# Altium footprint library CONN_HDR_2.54MM_ST.PcbLib: 159 footprints (part 6 of 13)
Each footprint in its own frame and in the unit in brackets; x right, y up, seen from the top. Pads: shape width x height; smd on the part's side, far side on the other; paste and mask are expansions set on the pad; w line width, h text height; cw(c..) or ccw(c..) is an arc to the next point about the centre after c.
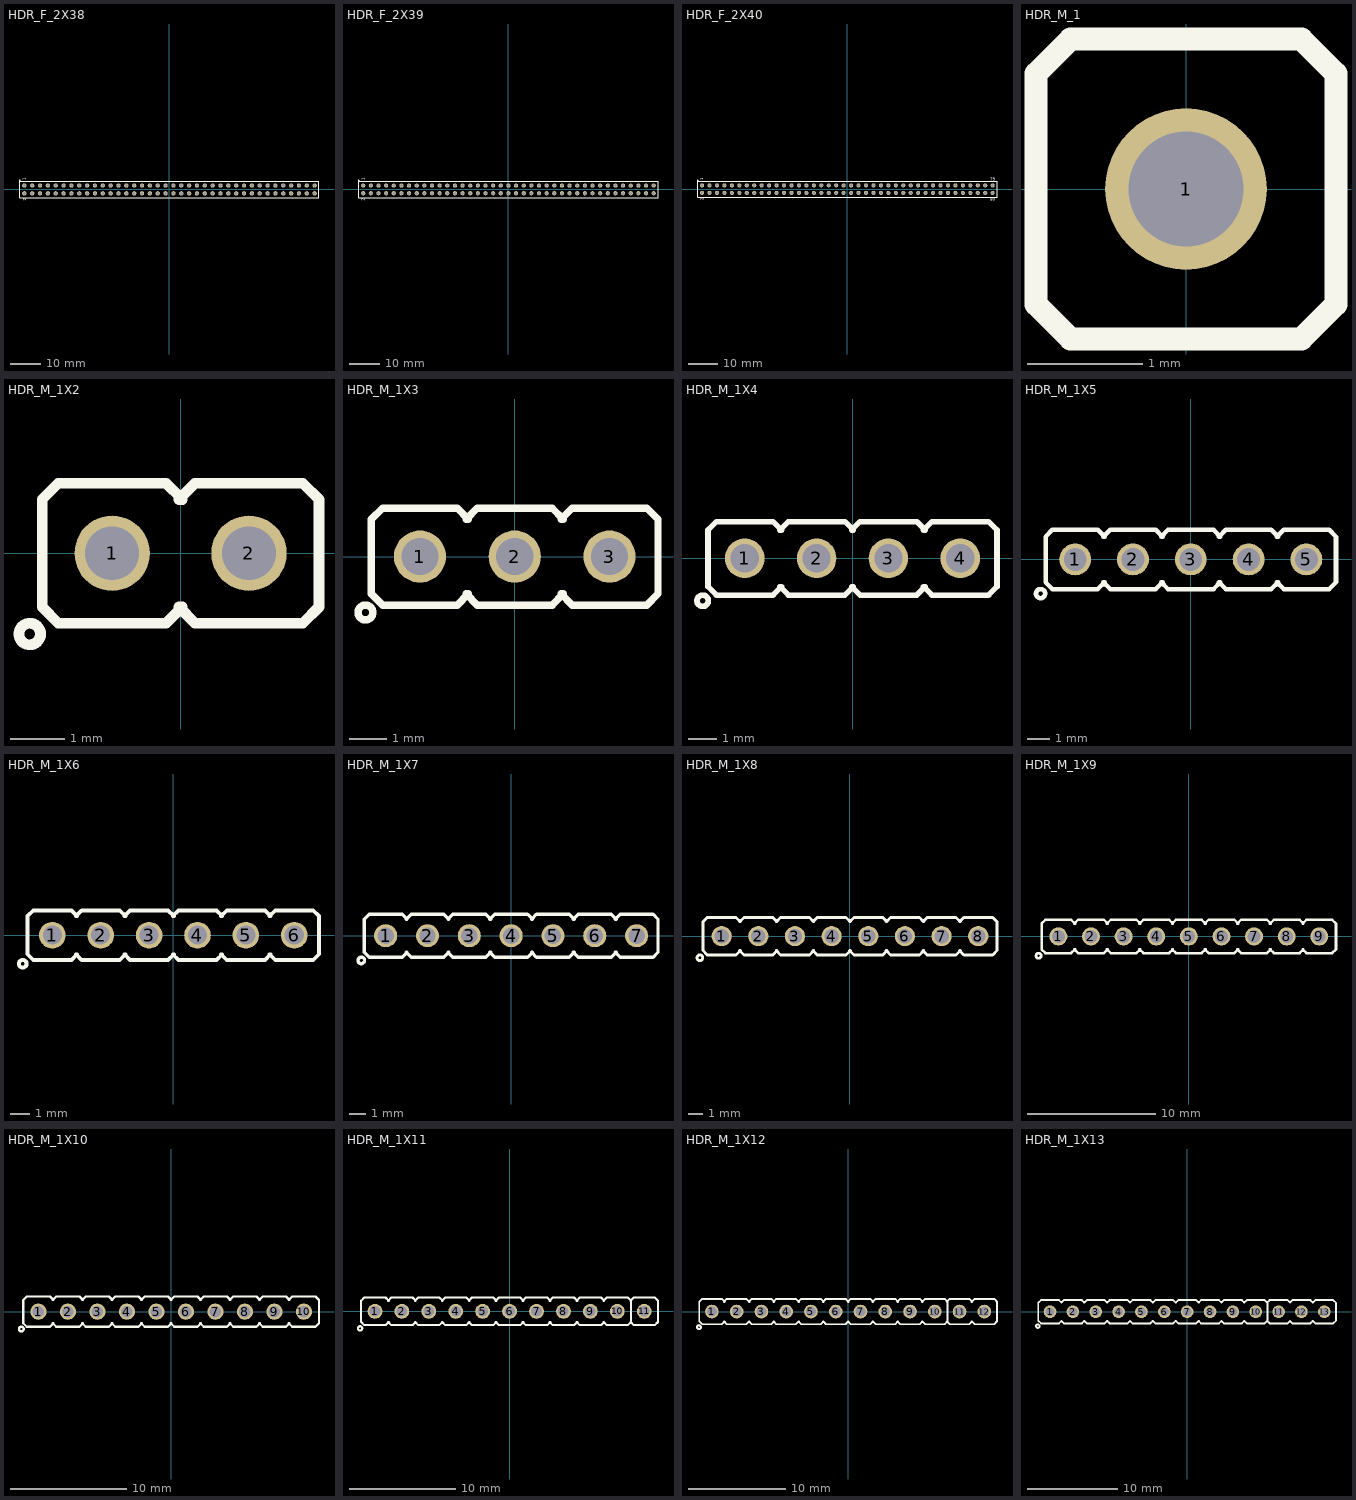
[diagram p5: the footprints below, top view; thin cyan lines are the x and y axes]

## HDR_F_2X38 [mm] "female Header with 2.54 mm Pitch"
pads (76):
  round 1.4 / inner round 1.4 / far side oval 1.4x2.2 hole 1: 1(-46.99,1.27) 2(-46.99,-1.27) 3(-44.45,1.27) 4(-44.45,-1.27) 5(-41.91,1.27) 6(-41.91,-1.27) 7(-39.37,1.27) 8(-39.37,-1.27) 9(-36.83,1.27) 10(-36.83,-1.27) 11(-34.29,1.27) 12(-34.29,-1.27) 13(-31.75,1.27) 14(-31.75,-1.27) 15(-29.21,1.27) 16(-29.21,-1.27) 17(-26.67,1.27) 18(-26.67,-1.27) 19(-24.13,1.27) 20(-24.13,-1.27) 21(-21.59,1.27) 22(-21.59,-1.27) 23(-19.05,1.27) 24(-19.05,-1.27) 25(-16.51,1.27) 26(-16.51,-1.27) 27(-13.97,1.27) 28(-13.97,-1.27) 29(-11.43,1.27) 30(-11.43,-1.27) 31(-8.89,1.27) 32(-8.89,-1.27) 33(-6.35,1.27) 34(-6.35,-1.27) 35(-3.81,1.27) 36(-3.81,-1.27) 37(-1.27,1.27) 38(-1.27,-1.27) 39(1.27,1.27) 40(1.27,-1.27) 41(3.81,1.27) 42(3.81,-1.27) 43(6.35,1.27) 44(6.35,-1.27) 45(8.89,1.27) 46(8.89,-1.27) 47(11.43,1.27) 48(11.43,-1.27) 49(13.97,1.27) 50(13.97,-1.27) 51(16.51,1.27) 52(16.51,-1.27) 53(19.05,1.27) 54(19.05,-1.27) 55(21.59,1.27) 56(21.59,-1.27) 57(24.13,1.27) 58(24.13,-1.27) 59(26.67,1.27) 60(26.67,-1.27) 61(29.21,1.27) 62(29.21,-1.27) 63(31.75,1.27) 64(31.75,-1.27) 65(34.29,1.27) 66(34.29,-1.27) 67(36.83,1.27) 68(36.83,-1.27) 69(39.37,1.27) 70(39.37,-1.27) 71(41.91,1.27) 72(41.91,-1.27) 73(44.45,1.27) 74(44.45,-1.27) 75(46.99,1.27) 76(46.99,-1.27)
TopOverlay:
  circle w0.2: c-48.52,2.8 r0.2
  lines w0.2: -48.42,-2.7 48.4,-2.7 48.4,2.7 -48.42,2.7 -48.42,-2.7
  text "2" at -46.42,-3.7 h1
  text "1" at -46.52,3 h1
3D body "PBD-2.stp": height 8.5, standoff -3.15, extent 30.48,-2.54 33.02,2.54
3D body "PBD-2.stp": height 8.5, standoff -3.15, extent 25.4,-2.54 27.94,2.54
3D body "PBD-2.stp": height 8.5, standoff -3.15, extent 22.86,-2.54 25.4,2.54
3D body "PBD-2.stp": height 8.5, standoff -3.15, extent 27.94,-2.54 30.48,2.54
3D body "PBD-2.stp": height 8.5, standoff -3.15, extent 17.78,-2.54 20.32,2.54
3D body "PBD-2.stp": height 8.5, standoff -3.15, extent 15.24,-2.54 17.78,2.54
3D body "PBD-2.stp": height 8.5, standoff -3.15, extent 20.32,-2.54 22.86,2.54
3D body "PBD-2.stp": height 8.5, standoff -3.15, extent 12.7,-2.54 15.24,2.54
3D body "PBD-2.stp": height 8.5, standoff -3.15, extent 10.16,-2.54 12.7,2.54
3D body "PBD-2.stp": height 8.5, standoff -3.15, extent 7.62,-2.54 10.16,2.54
3D body "PBD-2.stp": height 8.5, standoff -3.15, extent 5.08,-2.54 7.62,2.54
3D body "PBD-2.stp": height 8.5, standoff -3.15, extent 2.54,-2.54 5.08,2.54
3D body "PBD-2.stp": height 8.5, standoff -3.15, extent 0,-2.54 2.54,2.54
3D body "PBD-2.stp": height 8.5, standoff -3.15, extent -2.54,-2.54 0,2.54
3D body "PBD-2.stp": height 8.5, standoff -3.15, extent -7.62,-2.54 -5.08,2.54
3D body "PBD-2.stp": height 8.5, standoff -3.15, extent -10.16,-2.54 -7.62,2.54
3D body "PBD-2.stp": height 8.5, standoff -3.15, extent -5.08,-2.54 -2.54,2.54
3D body "PBD-2.stp": height 8.5, standoff -3.15, extent -15.24,-2.54 -12.7,2.54
3D body "PBD-2.stp": height 8.5, standoff -3.15, extent -17.78,-2.54 -15.24,2.54
3D body "PBD-2.stp": height 8.5, standoff -3.15, extent -12.7,-2.54 -10.16,2.54
3D body "PBD-2.stp": height 8.5, standoff -3.15, extent -22.86,-2.54 -20.32,2.54
3D body "PBD-2.stp": height 8.5, standoff -3.15, extent -25.4,-2.54 -22.86,2.54
3D body "PBD-2.stp": height 8.5, standoff -3.15, extent -20.32,-2.54 -17.78,2.54
3D body "PBD-2.stp": height 8.5, standoff -3.15, extent -30.48,-2.54 -27.94,2.54
3D body "PBD-2.stp": height 8.5, standoff -3.15, extent -33.02,-2.54 -30.48,2.54
3D body "PBD-2.stp": height 8.5, standoff -3.15, extent -27.94,-2.54 -25.4,2.54
3D body "PBD-2.stp": height 8.5, standoff -3.15, extent -38.1,-2.54 -35.56,2.54
3D body "PBD-2.stp": height 8.5, standoff -3.15, extent -40.64,-2.54 -38.1,2.54
3D body "PBD-2.stp": height 8.5, standoff -3.15, extent -35.56,-2.54 -33.02,2.54
3D body "PBD-2.stp": height 8.5, standoff -3.15, extent -45.72,-2.54 -43.18,2.54
3D body "PBD-2.stp": height 8.5, standoff -3.15, extent -48.26,-2.54 -45.72,2.54
3D body "PBD-2.stp": height 8.5, standoff -3.15, extent -43.18,-2.54 -40.64,2.54
3D body "PBD-2.stp": height 8.5, standoff -3.15, extent 33.02,-2.54 35.56,2.54
3D body "PBD-2.stp": height 8.5, standoff -3.15, extent 38.1,-2.54 40.64,2.54
3D body "PBD-2.stp": height 8.5, standoff -3.15, extent 35.56,-2.54 38.1,2.54
3D body "PBD-2.stp": height 8.5, standoff -3.15, extent 45.72,-2.54 48.26,2.54
3D body "PBD-2.stp": height 8.5, standoff -3.15, extent 40.64,-2.54 43.18,2.54
3D body "PBD-2.stp": height 8.5, standoff -3.15, extent 43.18,-2.54 45.72,2.54

## HDR_F_2X39 [mm] "female Header with 2.54 mm Pitch"
pads (78):
  round 1.4 / inner round 1.4 / far side oval 1.4x2.2 hole 1: 1(-48.26,1.27) 2(-48.26,-1.27) 3(-45.72,1.27) 4(-45.72,-1.27) 5(-43.18,1.27) 6(-43.18,-1.27) 7(-40.64,1.27) 8(-40.64,-1.27) 9(-38.1,1.27) 10(-38.1,-1.27) 11(-35.56,1.27) 12(-35.56,-1.27) 13(-33.02,1.27) 14(-33.02,-1.27) 15(-30.48,1.27) 16(-30.48,-1.27) 17(-27.94,1.27) 18(-27.94,-1.27) 19(-25.4,1.27) 20(-25.4,-1.27) 21(-22.86,1.27) 22(-22.86,-1.27) 23(-20.32,1.27) 24(-20.32,-1.27) 25(-17.78,1.27) 26(-17.78,-1.27) 27(-15.24,1.27) 28(-15.24,-1.27) 29(-12.7,1.27) 30(-12.7,-1.27) 31(-10.16,1.27) 32(-10.16,-1.27) 33(-7.62,1.27) 34(-7.62,-1.27) 35(-5.08,1.27) 36(-5.08,-1.27) 37(-2.54,1.27) 38(-2.54,-1.27) 39(0,1.27) 40(0,-1.27) 41(2.54,1.27) 42(2.54,-1.27) 43(5.08,1.27) 44(5.08,-1.27) 45(7.62,1.27) 46(7.62,-1.27) 47(10.16,1.27) 48(10.16,-1.27) 49(12.7,1.27) 50(12.7,-1.27) 51(15.24,1.27) 52(15.24,-1.27) 53(17.78,1.27) 54(17.78,-1.27) 55(20.32,1.27) 56(20.32,-1.27) 57(22.86,1.27) 58(22.86,-1.27) 59(25.4,1.27) 60(25.4,-1.27) 61(27.94,1.27) 62(27.94,-1.27) 63(30.48,1.27) 64(30.48,-1.27) 65(33.02,1.27) 66(33.02,-1.27) 67(35.56,1.27) 68(35.56,-1.27) 69(38.1,1.27) 70(38.1,-1.27) 71(40.64,1.27) 72(40.64,-1.27) 73(43.18,1.27) 74(43.18,-1.27) 75(45.72,1.27) 76(45.72,-1.27) 77(48.26,1.27) 78(48.26,-1.27)
TopOverlay:
  circle w0.2: c-49.79,2.8 r0.2
  lines w0.2: -49.69,-2.7 -49.69,2.7 49.7,2.7 49.7,-2.7 -49.69,-2.7
  text "1" at -47.79,3 h1
  text "2" at -47.69,-3.7 h1
3D body "PBD-2.stp": height 8.5, standoff -3.15, extent 46.99,-2.54 49.53,2.54
3D body "PBD-2.stp": height 8.5, standoff -3.15, extent 41.91,-2.54 44.45,2.54
3D body "PBD-2.stp": height 8.5, standoff -3.15, extent 39.37,-2.54 41.91,2.54
3D body "PBD-2.stp": height 8.5, standoff -3.15, extent 44.45,-2.54 46.99,2.54
3D body "PBD-2.stp": height 8.5, standoff -3.15, extent 34.29,-2.54 36.83,2.54
3D body "PBD-2.stp": height 8.5, standoff -3.15, extent 36.83,-2.54 39.37,2.54
3D body "PBD-2.stp": height 8.5, standoff -3.15, extent 31.75,-2.54 34.29,2.54
3D body "PBD-2.stp": height 8.5, standoff -3.15, extent -44.45,-2.54 -41.91,2.54
3D body "PBD-2.stp": height 8.5, standoff -3.15, extent -49.53,-2.54 -46.99,2.54
3D body "PBD-2.stp": height 8.5, standoff -3.15, extent -46.99,-2.54 -44.45,2.54
3D body "PBD-2.stp": height 8.5, standoff -3.15, extent -36.83,-2.54 -34.29,2.54
3D body "PBD-2.stp": height 8.5, standoff -3.15, extent -41.91,-2.54 -39.37,2.54
3D body "PBD-2.stp": height 8.5, standoff -3.15, extent -39.37,-2.54 -36.83,2.54
3D body "PBD-2.stp": height 8.5, standoff -3.15, extent -29.21,-2.54 -26.67,2.54
3D body "PBD-2.stp": height 8.5, standoff -3.15, extent -34.29,-2.54 -31.75,2.54
3D body "PBD-2.stp": height 8.5, standoff -3.15, extent -31.75,-2.54 -29.21,2.54
3D body "PBD-2.stp": height 8.5, standoff -3.15, extent -21.59,-2.54 -19.05,2.54
3D body "PBD-2.stp": height 8.5, standoff -3.15, extent -26.67,-2.54 -24.13,2.54
3D body "PBD-2.stp": height 8.5, standoff -3.15, extent -24.13,-2.54 -21.59,2.54
3D body "PBD-2.stp": height 8.5, standoff -3.15, extent -13.97,-2.54 -11.43,2.54
3D body "PBD-2.stp": height 8.5, standoff -3.15, extent -19.05,-2.54 -16.51,2.54
3D body "PBD-2.stp": height 8.5, standoff -3.15, extent -16.51,-2.54 -13.97,2.54
3D body "PBD-2.stp": height 8.5, standoff -3.15, extent -6.35,-2.54 -3.81,2.54
3D body "PBD-2.stp": height 8.5, standoff -3.15, extent -11.43,-2.54 -8.89,2.54
3D body "PBD-2.stp": height 8.5, standoff -3.15, extent -8.89,-2.54 -6.35,2.54
3D body "PBD-2.stp": height 8.5, standoff -3.15, extent -3.81,-2.54 -1.27,2.54
3D body "PBD-2.stp": height 8.5, standoff -3.15, extent -1.27,-2.54 1.27,2.54
3D body "PBD-2.stp": height 8.5, standoff -3.15, extent 1.27,-2.54 3.81,2.54
3D body "PBD-2.stp": height 8.5, standoff -3.15, extent 3.81,-2.54 6.35,2.54
3D body "PBD-2.stp": height 8.5, standoff -3.15, extent 6.35,-2.54 8.89,2.54
3D body "PBD-2.stp": height 8.5, standoff -3.15, extent 8.89,-2.54 11.43,2.54
3D body "PBD-2.stp": height 8.5, standoff -3.15, extent 11.43,-2.54 13.97,2.54
3D body "PBD-2.stp": height 8.5, standoff -3.15, extent 19.05,-2.54 21.59,2.54
3D body "PBD-2.stp": height 8.5, standoff -3.15, extent 13.97,-2.54 16.51,2.54
3D body "PBD-2.stp": height 8.5, standoff -3.15, extent 16.51,-2.54 19.05,2.54
3D body "PBD-2.stp": height 8.5, standoff -3.15, extent 26.67,-2.54 29.21,2.54
3D body "PBD-2.stp": height 8.5, standoff -3.15, extent 21.59,-2.54 24.13,2.54
3D body "PBD-2.stp": height 8.5, standoff -3.15, extent 24.13,-2.54 26.67,2.54
3D body "PBD-2.stp": height 8.5, standoff -3.15, extent 29.21,-2.54 31.75,2.54

## HDR_F_2X40 [mm] "female Header with 2.54 mm Pitch"
pads (80):
  round 1.4 / inner round 1.4 / far side oval 1.4x2.2 hole 1: 1(-49.53,1.27) 2(-49.53,-1.27) 3(-46.99,1.27) 4(-46.99,-1.27) 5(-44.45,1.27) 6(-44.45,-1.27) 7(-41.91,1.27) 8(-41.91,-1.27) 9(-39.37,1.27) 10(-39.37,-1.27) 11(-36.83,1.27) 12(-36.83,-1.27) 13(-34.29,1.27) 14(-34.29,-1.27) 15(-31.75,1.27) 16(-31.75,-1.27) 17(-29.21,1.27) 18(-29.21,-1.27) 19(-26.67,1.27) 20(-26.67,-1.27) 21(-24.13,1.27) 22(-24.13,-1.27) 23(-21.59,1.27) 24(-21.59,-1.27) 25(-19.05,1.27) 26(-19.05,-1.27) 27(-16.51,1.27) 28(-16.51,-1.27) 29(-13.97,1.27) 30(-13.97,-1.27) 31(-11.43,1.27) 32(-11.43,-1.27) 33(-8.89,1.27) 34(-8.89,-1.27) 35(-6.35,1.27) 36(-6.35,-1.27) 37(-3.81,1.27) 38(-3.81,-1.27) 39(-1.27,1.27) 40(-1.27,-1.27) 41(1.27,1.27) 42(1.27,-1.27) 43(3.81,1.27) 44(3.81,-1.27) 45(6.35,1.27) 46(6.35,-1.27) 47(8.89,1.27) 48(8.89,-1.27) 49(11.43,1.27) 50(11.43,-1.27) 51(13.97,1.27) 52(13.97,-1.27) 53(16.51,1.27) 54(16.51,-1.27) 55(19.05,1.27) 56(19.05,-1.27) 57(21.59,1.27) 58(21.59,-1.27) 59(24.13,1.27) 60(24.13,-1.27) 61(26.67,1.27) 62(26.67,-1.27) 63(29.21,1.27) 64(29.21,-1.27) 65(31.75,1.27) 66(31.75,-1.27) 67(34.29,1.27) 68(34.29,-1.27) 69(36.83,1.27) 70(36.83,-1.27) 71(39.37,1.27) 72(39.37,-1.27) 73(41.91,1.27) 74(41.91,-1.27) 75(44.45,1.27) 76(44.45,-1.27) 77(46.99,1.27) 78(46.99,-1.27) 79(49.53,1.27) 80(49.53,-1.27)
TopOverlay:
  circle w0.2: c-51.06,2.8 r0.2
  lines w0.2: -50.96,-2.7 51,-2.7 51,2.7 -50.96,2.7 -50.96,-2.7
  text "2" at -48.96,-3.7 h1
  text "1" at -49.06,3 h1
  text "79" at 48.72,2.9 h1
  text "80" at 48.72,-3.9 h1
3D body "PBD-2.stp": height 8.5, standoff -3.15, extent 27.94,-2.54 30.48,2.54
3D body "PBD-2.stp": height 8.5, standoff -3.15, extent 22.86,-2.54 25.4,2.54
3D body "PBD-2.stp": height 8.5, standoff -3.15, extent 20.32,-2.54 22.86,2.54
3D body "PBD-2.stp": height 8.5, standoff -3.15, extent 25.4,-2.54 27.94,2.54
3D body "PBD-2.stp": height 8.5, standoff -3.15, extent 15.24,-2.54 17.78,2.54
3D body "PBD-2.stp": height 8.5, standoff -3.15, extent 12.7,-2.54 15.24,2.54
3D body "PBD-2.stp": height 8.5, standoff -3.15, extent 17.78,-2.54 20.32,2.54
3D body "PBD-2.stp": height 8.5, standoff -3.15, extent 10.16,-2.54 12.7,2.54
3D body "PBD-2.stp": height 8.5, standoff -3.15, extent 7.62,-2.54 10.16,2.54
3D body "PBD-2.stp": height 8.5, standoff -3.15, extent 5.08,-2.54 7.62,2.54
3D body "PBD-2.stp": height 8.5, standoff -3.15, extent 2.54,-2.54 5.08,2.54
3D body "PBD-2.stp": height 8.5, standoff -3.15, extent 0,-2.54 2.54,2.54
3D body "PBD-2.stp": height 8.5, standoff -3.15, extent -2.54,-2.54 0,2.54
3D body "PBD-2.stp": height 8.5, standoff -3.15, extent -5.08,-2.54 -2.54,2.54
3D body "PBD-2.stp": height 8.5, standoff -3.15, extent -10.16,-2.54 -7.62,2.54
3D body "PBD-2.stp": height 8.5, standoff -3.15, extent -12.7,-2.54 -10.16,2.54
3D body "PBD-2.stp": height 8.5, standoff -3.15, extent -7.62,-2.54 -5.08,2.54
3D body "PBD-2.stp": height 8.5, standoff -3.15, extent -17.78,-2.54 -15.24,2.54
3D body "PBD-2.stp": height 8.5, standoff -3.15, extent -20.32,-2.54 -17.78,2.54
3D body "PBD-2.stp": height 8.5, standoff -3.15, extent -15.24,-2.54 -12.7,2.54
3D body "PBD-2.stp": height 8.5, standoff -3.15, extent -25.4,-2.54 -22.86,2.54
3D body "PBD-2.stp": height 8.5, standoff -3.15, extent -27.94,-2.54 -25.4,2.54
3D body "PBD-2.stp": height 8.5, standoff -3.15, extent -22.86,-2.54 -20.32,2.54
3D body "PBD-2.stp": height 8.5, standoff -3.15, extent -33.02,-2.54 -30.48,2.54
3D body "PBD-2.stp": height 8.5, standoff -3.15, extent -35.56,-2.54 -33.02,2.54
3D body "PBD-2.stp": height 8.5, standoff -3.15, extent -30.48,-2.54 -27.94,2.54
3D body "PBD-2.stp": height 8.5, standoff -3.15, extent -40.64,-2.54 -38.1,2.54
3D body "PBD-2.stp": height 8.5, standoff -3.15, extent -43.18,-2.54 -40.64,2.54
3D body "PBD-2.stp": height 8.5, standoff -3.15, extent -38.1,-2.54 -35.56,2.54
3D body "PBD-2.stp": height 8.5, standoff -3.15, extent -48.26,-2.54 -45.72,2.54
3D body "PBD-2.stp": height 8.5, standoff -3.15, extent -50.8,-2.54 -48.26,2.54
3D body "PBD-2.stp": height 8.5, standoff -3.15, extent -45.72,-2.54 -43.18,2.54
3D body "PBD-2.stp": height 8.5, standoff -3.15, extent 30.48,-2.54 33.02,2.54
3D body "PBD-2.stp": height 8.5, standoff -3.15, extent 48.26,-2.54 50.8,2.54
3D body "PBD-2.stp": height 8.5, standoff -3.15, extent 35.56,-2.54 38.1,2.54
3D body "PBD-2.stp": height 8.5, standoff -3.15, extent 33.02,-2.54 35.56,2.54
3D body "PBD-2.stp": height 8.5, standoff -3.15, extent 43.18,-2.54 45.72,2.54
3D body "PBD-2.stp": height 8.5, standoff -3.15, extent 38.1,-2.54 40.64,2.54
3D body "PBD-2.stp": height 8.5, standoff -3.15, extent 40.64,-2.54 43.18,2.54
3D body "PBD-2.stp": height 8.5, standoff -3.15, extent 45.72,-2.54 48.26,2.54

## HDR_M_1 [mm] "Connector; Header; 1 Position"
pads (1):
  round 1.4 / inner round 1.4 / far side oval 1.4x2.2 hole 1 mask+0.1: 1(0,0)
TopOverlay:
  lines w0.2: -1.3,-1 -1.3,1 -1,1.3 1,1.3 1.3,1 1.3,-1 1,-1.3 -1,-1.3 -1.3,-1
3D body "PLS-1.step": height 8.54, standoff -2.9, extent -1.27,-1.27 1.27,1.27

## HDR_M_1X2 [mm] "Connector; Header; 2 Position"
pads (2):
  round 1.4 / inner round 1.4 / far side oval 1.4x2.2 hole 1 mask+0.1: 1(-1.27,0) 2(1.27,0)
TopOverlay:
  circle w0.2: c-2.8,-1.5 r0.2
  lines w0.2: -0.03,-1 0.27,-1.3 2.27,-1.3 2.57,-1 2.57,1 2.27,1.3 0.27,1.3 -0.03,1 ; 0.03,-1 -0.27,-1.3 -2.27,-1.3 -2.57,-1 -2.57,1 -2.27,1.3 -0.27,1.3 0.03,1
3D body "pin_header_aw140-eg-g02a.stp": height 8.72, standoff -3.68, extent -2.54,-1.25 2.44,1.25

## HDR_M_1X3 [mm] "Connector; Header; 3 Position"
pads (3):
  round 1.4 / inner round 1.4 / far side oval 1.4x2.2 hole 1 mask+0.1: 1(-2.54,0) 2(0,0) 3(2.54,0)
TopOverlay:
  circle w0.2: c-4,-1.5 r0.2
  lines w0.2: -1.3,-1 -1,-1.3 1,-1.3 1.3,-1 ; -1.3,1 -1,1.3 1,1.3 1.3,1 ; -1.24,-1 -1.54,-1.3 -3.54,-1.3 -3.84,-1 -3.84,1 -3.54,1.3 -1.54,1.3 -1.24,1 ; 1.24,-1 1.54,-1.3 3.54,-1.3 3.84,-1 3.84,1 3.54,1.3 1.54,1.3 1.24,1
3D body "PLS-1.step": height 8.54, standoff -2.9, extent 1.295,-1.27 3.835,1.27
3D body "PLS-1.step": height 8.54, standoff -2.9, extent -3.785,-1.27 -1.245,1.27
3D body "PLS-1.step": height 8.54, standoff -2.9, extent -1.245,-1.27 1.295,1.27

## HDR_M_1X4 [mm] "Connector; Header; 4 Position"
pads (4):
  round 1.4 / inner round 1.4 / far side oval 1.4x2.2 hole 1 mask+0.1: 1(-3.81,0) 2(-1.27,0) 3(1.27,0) 4(3.81,0)
TopOverlay:
  circle w0.2: c-5.3,-1.5 r0.2
  lines w0.2: -2.57,-1 -2.27,-1.3 -0.27,-1.3 0.03,-1 ; -2.57,1 -2.27,1.3 -0.27,1.3 0.03,1 ; -2.51,-1 -2.81,-1.3 -4.81,-1.3 -5.11,-1 -5.11,1 -4.81,1.3 -2.81,1.3 -2.51,1 ; -0.03,-1 0.27,-1.3 2.27,-1.3 2.57,-1 ; -0.03,1 0.27,1.3 2.27,1.3 2.57,1 ; 2.51,-1 2.81,-1.3 4.81,-1.3 5.11,-1 5.11,1 4.81,1.3 2.81,1.3 2.51,1
3D body "PLS-1.step": height 8.54, standoff -2.9, extent -2.54,-1.27 0,1.27
3D body "PLS-1.step": height 8.54, standoff -2.9, extent -5.08,-1.27 -2.54,1.27
3D body "PLS-1.step": height 8.54, standoff -2.9, extent 0,-1.27 2.54,1.27
3D body "PLS-1.step": height 8.54, standoff -2.9, extent 2.54,-1.27 5.08,1.27

## HDR_M_1X5 [mm] "Connector; Header; 5 Position"
pads (5):
  round 1.4 / inner round 1.4 / far side oval 1.4x2.2 hole 1 mask+0.1: 1(-5.08,0) 2(-2.54,0) 3(0,0) 4(2.54,0) 5(5.08,0)
TopOverlay:
  circle w0.2: c-6.6,-1.5 r0.2
  lines w0.2: -3.84,-1 -3.54,-1.3 -1.54,-1.3 -1.24,-1 ; -3.84,1 -3.54,1.3 -1.54,1.3 -1.24,1 ; -3.78,-1 -4.08,-1.3 -6.08,-1.3 -6.38,-1 -6.38,1 -6.08,1.3 -4.08,1.3 -3.78,1 ; -1.3,-1 -1,-1.3 1,-1.3 1.3,-1 ; -1.3,1 -1,1.3 1,1.3 1.3,1 ; 1.24,-1 1.54,-1.3 3.54,-1.3 3.84,-1 ; 1.24,1 1.54,1.3 3.54,1.3 3.84,1 ; 3.78,-1 4.08,-1.3 6.08,-1.3 6.38,-1 6.38,1 6.08,1.3 4.08,1.3 3.78,1
3D body "PLS-1.step": height 8.54, standoff -2.9, extent -3.81,-1.27 -1.27,1.27
3D body "PLS-1.step": height 8.54, standoff -2.9, extent -6.35,-1.27 -3.81,1.27
3D body "PLS-1.step": height 8.54, standoff -2.9, extent -1.27,-1.27 1.27,1.27
3D body "PLS-1.step": height 8.54, standoff -2.9, extent 1.27,-1.27 3.81,1.27
3D body "PLS-1.step": height 8.54, standoff -2.9, extent 3.81,-1.27 6.35,1.27

## HDR_M_1X6 [mm] "Connector; Header; 6 Position"
pads (6):
  round 1.4 / inner round 1.4 / far side oval 1.4x2.2 hole 1 mask+0.1: 1(-6.35,0) 2(-3.81,0) 3(-1.27,0) 4(1.27,0) 5(3.81,0) 6(6.35,0)
TopOverlay:
  circle w0.2: c-7.9,-1.5 r0.2
  lines w0.2: -5.11,-1 -4.81,-1.3 -2.81,-1.3 -2.51,-1 ; -5.11,1 -4.81,1.3 -2.81,1.3 -2.51,1 ; -5.05,-1 -5.35,-1.3 -7.35,-1.3 -7.65,-1 -7.65,1 -7.35,1.3 -5.35,1.3 -5.05,1 ; -2.57,-1 -2.27,-1.3 -0.27,-1.3 0.03,-1 ; -2.57,1 -2.27,1.3 -0.27,1.3 0.03,1 ; -0.03,-1 0.27,-1.3 2.27,-1.3 2.57,-1 ; -0.03,1 0.27,1.3 2.27,1.3 2.57,1 ; 2.51,-1 2.81,-1.3 4.81,-1.3 5.11,-1 ; 2.51,1 2.81,1.3 4.81,1.3 5.11,1 ; 5.05,-1 5.35,-1.3 7.35,-1.3 7.65,-1 7.65,1 7.35,1.3 5.35,1.3 5.05,1
3D body "User Library-Header_Male_6Pin.STEP": height 8.54, standoff -3, extent -7.62,-1.3 7.62,1.19

## HDR_M_1X7 [mm] "Connector; Header; 7 Position"
pads (7):
  round 1.4 / inner round 1.4 / far side oval 1.4x2.2 hole 1 mask+0.1: 1(-7.62,0) 2(-5.08,0) 3(-2.54,0) 4(0,0) 5(2.54,0) 6(5.08,0) 7(7.62,0)
TopOverlay:
  circle w0.2: c-9.1,-1.5 r0.2
  lines w0.2: -6.38,-1 -6.08,-1.3 -4.08,-1.3 -3.78,-1 ; -6.38,1 -6.08,1.3 -4.08,1.3 -3.78,1 ; -6.32,-1 -6.62,-1.3 -8.62,-1.3 -8.92,-1 -8.92,1 -8.62,1.3 -6.62,1.3 -6.32,1 ; -3.84,-1 -3.54,-1.3 -1.54,-1.3 -1.24,-1 ; -3.84,1 -3.54,1.3 -1.54,1.3 -1.24,1 ; -1.3,-1 -1,-1.3 1,-1.3 1.3,-1 ; -1.3,1 -1,1.3 1,1.3 1.3,1 ; 1.24,-1 1.54,-1.3 3.54,-1.3 3.84,-1 ; 1.24,1 1.54,1.3 3.54,1.3 3.84,1 ; 3.78,-1 4.08,-1.3 6.08,-1.3 6.38,-1 ; 3.78,1 4.08,1.3 6.08,1.3 6.38,1 ; 6.32,-1 6.62,-1.3 8.62,-1.3 8.92,-1 8.92,1 8.62,1.3 6.62,1.3 6.32,1
3D body "User Library-Header_Male_7Pin.STEP": height 8.54, standoff -3, extent -8.89,-1.3 8.89,1.19

## HDR_M_1X8 [mm] "Connector; Header; 8 Position"
pads (8):
  round 1.4 / inner round 1.4 / far side oval 1.4x2.2 hole 1 mask+0.1: 1(-8.89,0) 2(-6.35,0) 3(-3.81,0) 4(-1.27,0) 5(1.27,0) 6(3.81,0) 7(6.35,0) 8(8.89,0)
TopOverlay:
  circle w0.2: c-10.4,-1.5 r0.2
  lines w0.2: -7.65,-1 -7.35,-1.3 -5.35,-1.3 -5.05,-1 ; -7.65,1 -7.35,1.3 -5.35,1.3 -5.05,1 ; -7.59,-1 -7.89,-1.3 -9.89,-1.3 -10.19,-1 -10.19,1 -9.89,1.3 -7.89,1.3 -7.59,1 ; -5.11,-1 -4.81,-1.3 -2.81,-1.3 -2.51,-1 ; -5.11,1 -4.81,1.3 -2.81,1.3 -2.51,1 ; -2.57,-1 -2.27,-1.3 -0.27,-1.3 0.03,-1 ; -2.57,1 -2.27,1.3 -0.27,1.3 0.03,1 ; -0.03,-1 0.27,-1.3 2.27,-1.3 2.57,-1 ; -0.03,1 0.27,1.3 2.27,1.3 2.57,1 ; 2.51,-1 2.81,-1.3 4.81,-1.3 5.11,-1 ; 2.51,1 2.81,1.3 4.81,1.3 5.11,1 ; 5.05,-1 5.35,-1.3 7.35,-1.3 7.65,-1 ; 5.05,1 5.35,1.3 7.35,1.3 7.65,1 ; 7.59,-1 7.89,-1.3 9.89,-1.3 10.19,-1 10.19,1 9.89,1.3 7.89,1.3 7.59,1
3D body "User Library-Header_Male_8Pin.STEP": height 8.54, standoff -3, extent -10.16,-1.3 10.16,1.19

## HDR_M_1X9 [mm] "Connector; Header; 9 Position"
pads (9):
  round 1.4 / inner round 1.4 / far side oval 1.4x2.2 hole 1 mask+0.1: 1(-10.16,0) 2(-7.62,0) 3(-5.08,0) 4(-2.54,0) 5(0,0) 6(2.54,0) 7(5.08,0) 8(7.62,0) 9(10.16,0)
TopOverlay:
  circle w0.2: c-11.7,-1.5 r0.2
  lines w0.2: -8.92,-1 -8.62,-1.3 -6.62,-1.3 -6.32,-1 ; -8.92,1 -8.62,1.3 -6.62,1.3 -6.32,1 ; -8.86,-1 -9.16,-1.3 -11.16,-1.3 -11.46,-1 -11.46,1 -11.16,1.3 -9.16,1.3 -8.86,1 ; -6.38,-1 -6.08,-1.3 -4.08,-1.3 -3.78,-1 ; -6.38,1 -6.08,1.3 -4.08,1.3 -3.78,1 ; -3.84,-1 -3.54,-1.3 -1.54,-1.3 -1.24,-1 ; -3.84,1 -3.54,1.3 -1.54,1.3 -1.24,1 ; -1.3,-1 -1,-1.3 1,-1.3 1.3,-1 ; -1.3,1 -1,1.3 1,1.3 1.3,1 ; 1.24,-1 1.54,-1.3 3.54,-1.3 3.84,-1 ; 1.24,1 1.54,1.3 3.54,1.3 3.84,1 ; 3.78,-1 4.08,-1.3 6.08,-1.3 6.38,-1 ; 3.78,1 4.08,1.3 6.08,1.3 6.38,1 ; 6.32,-1 6.62,-1.3 8.62,-1.3 8.92,-1 ; 6.32,1 6.62,1.3 8.62,1.3 8.92,1 ; 8.86,-1 9.16,-1.3 11.16,-1.3 11.46,-1 11.46,1 11.16,1.3 9.16,1.3 8.86,1
3D body "User Library-Header_Male_9Pin.STEP": height 8.54, standoff -3, extent -11.43,-1.3 11.43,1.19

## HDR_M_1X10 [mm] "Connector; Header; 10 Position"
pads (10):
  round 1.4 / inner round 1.4 / far side oval 1.4x2.2 hole 1 mask+0.1: 1(-11.43,0) 2(-8.89,0) 3(-6.35,0) 4(-3.81,0) 5(-1.27,0) 6(1.27,0) 7(3.81,0) 8(6.35,0) 9(8.89,0) 10(11.43,0)
TopOverlay:
  circle w0.2: c-12.9,-1.5 r0.2
  lines w0.2: -10.19,-1 -9.89,-1.3 -7.89,-1.3 -7.59,-1 ; -10.19,1 -9.89,1.3 -7.89,1.3 -7.59,1 ; -10.13,-1 -10.43,-1.3 -12.43,-1.3 -12.73,-1 -12.73,1 -12.43,1.3 -10.43,1.3 -10.13,1 ; -7.65,-1 -7.35,-1.3 -5.35,-1.3 -5.05,-1 ; -7.65,1 -7.35,1.3 -5.35,1.3 -5.05,1 ; -5.11,-1 -4.81,-1.3 -2.81,-1.3 -2.51,-1 ; -5.11,1 -4.81,1.3 -2.81,1.3 -2.51,1 ; -2.57,-1 -2.27,-1.3 -0.27,-1.3 0.03,-1 ; -2.57,1 -2.27,1.3 -0.27,1.3 0.03,1 ; -0.03,-1 0.27,-1.3 2.27,-1.3 2.57,-1 ; -0.03,1 0.27,1.3 2.27,1.3 2.57,1 ; 2.51,-1 2.81,-1.3 4.81,-1.3 5.11,-1 ; 2.51,1 2.81,1.3 4.81,1.3 5.11,1 ; 5.05,-1 5.35,-1.3 7.35,-1.3 7.65,-1 ; 5.05,1 5.35,1.3 7.35,1.3 7.65,1 ; 7.59,-1 7.89,-1.3 9.89,-1.3 10.19,-1 ; 7.59,1 7.89,1.3 9.89,1.3 10.19,1 ; 10.13,-1 10.43,-1.3 12.43,-1.3 12.73,-1 12.73,1 12.43,1.3 10.43,1.3 10.13,1
3D body "User Library-Header_Male_10Pin.STEP": height 8.54, standoff -3, extent -12.7,-1.3 12.7,1.19

## HDR_M_1X11 [mm] "Connector; Header; 11 Position"
pads (11):
  round 1.4 / inner round 1.4 / far side oval 1.4x2.2 hole 1 mask+0.1: 1(-12.7,0) 2(-10.16,0) 3(-7.62,0) 4(-5.08,0) 5(-2.54,0) 6(0,0) 7(2.54,0) 8(5.08,0) 9(7.62,0) 10(10.16,0) 11(12.7,0)
TopOverlay:
  circle w0.2: c-14.1,-1.6 r0.2
  lines w0.2: -11.46,-1 -11.16,-1.3 -9.16,-1.3 -8.86,-1 ; -11.46,1 -11.16,1.3 -9.16,1.3 -8.86,1 ; -11.4,-1 -11.7,-1.3 -13.7,-1.3 -14,-1 -14,1 -13.7,1.3 -11.7,1.3 -11.4,1 ; -8.92,-1 -8.62,-1.3 -6.62,-1.3 -6.32,-1 ; -8.92,1 -8.62,1.3 -6.62,1.3 -6.32,1 ; -6.38,-1 -6.08,-1.3 -4.08,-1.3 -3.78,-1 ; -6.38,1 -6.08,1.3 -4.08,1.3 -3.78,1 ; -3.84,-1 -3.54,-1.3 -1.54,-1.3 -1.24,-1 ; -3.84,1 -3.54,1.3 -1.54,1.3 -1.24,1 ; -1.3,-1 -1,-1.3 1,-1.3 1.3,-1 ; -1.3,1 -1,1.3 1,1.3 1.3,1 ; 1.24,-1 1.54,-1.3 3.54,-1.3 3.84,-1 ; 1.24,1 1.54,1.3 3.54,1.3 3.84,1 ; 3.78,-1 4.08,-1.3 6.08,-1.3 6.38,-1 ; 3.78,1 4.08,1.3 6.08,1.3 6.38,1 ; 6.32,-1 6.62,-1.3 8.62,-1.3 8.92,-1 ; 6.32,1 6.62,1.3 8.62,1.3 8.92,1 ; 8.86,-1 9.16,-1.3 11.16,-1.3 11.46,-1 11.46,1 11.16,1.3 9.16,1.3 8.86,1 ; 11.4,-1 11.7,-1.3 13.7,-1.3 14,-1 14,1 13.7,1.3 11.7,1.3 11.4,1
3D body "User Library-Header_Male_1Pin.STEP": height 8.54, standoff -3, extent 11.43,-1.245 13.97,1.245
3D body "User Library-Header_Male_10Pin.STEP": height 8.54, standoff -3, extent -13.97,-1.3 11.43,1.19

## HDR_M_1X12 [mm] "Connector; Header; 12 Position"
pads (12):
  round 1.4 / inner round 1.4 / far side oval 1.4x2.2 hole 1 mask+0.1: 1(-13.97,0) 2(-11.43,0) 3(-8.89,0) 4(-6.35,0) 5(-3.81,0) 6(-1.27,0) 7(1.27,0) 8(3.81,0) 9(6.35,0) 10(8.89,0) 11(11.43,0) 12(13.97,0)
TopOverlay:
  circle w0.2: c-15.3,-1.6 r0.2
  lines w0.2: -12.73,-1 -12.43,-1.3 -10.43,-1.3 -10.13,-1 ; -12.73,1 -12.43,1.3 -10.43,1.3 -10.13,1 ; -12.67,-1 -12.97,-1.3 -14.97,-1.3 -15.27,-1 -15.27,1 -14.97,1.3 -12.97,1.3 -12.67,1 ; -10.19,-1 -9.89,-1.3 -7.89,-1.3 -7.59,-1 ; -10.19,1 -9.89,1.3 -7.89,1.3 -7.59,1 ; -7.65,-1 -7.35,-1.3 -5.35,-1.3 -5.05,-1 ; -7.65,1 -7.35,1.3 -5.35,1.3 -5.05,1 ; -5.11,-1 -4.81,-1.3 -2.81,-1.3 -2.51,-1 ; -5.11,1 -4.81,1.3 -2.81,1.3 -2.51,1 ; -2.57,-1 -2.27,-1.3 -0.27,-1.3 0.03,-1 ; -2.57,1 -2.27,1.3 -0.27,1.3 0.03,1 ; -0.03,-1 0.27,-1.3 2.27,-1.3 2.57,-1 ; -0.03,1 0.27,1.3 2.27,1.3 2.57,1 ; 2.51,-1 2.81,-1.3 4.81,-1.3 5.11,-1 ; 2.51,1 2.81,1.3 4.81,1.3 5.11,1 ; 5.05,-1 5.35,-1.3 7.35,-1.3 7.65,-1 ; 5.05,1 5.35,1.3 7.35,1.3 7.65,1 ; 7.59,-1 7.89,-1.3 9.89,-1.3 10.19,-1 10.19,1 9.89,1.3 7.89,1.3 7.59,1 ; 10.13,-1 10.43,-1.3 12.43,-1.3 12.73,-1 ; 10.13,1 10.43,1.3 12.43,1.3 12.73,1 ; 12.67,-1 12.97,-1.3 14.97,-1.3 15.27,-1 15.27,1 14.97,1.3 12.97,1.3 12.67,1
3D body "User Library-Header_Male_10Pin.STEP": height 8.54, standoff -3, extent -15.24,-1.3 10.16,1.19
3D body "User Library-Header_Male_1Pin.STEP": height 8.54, standoff -3, extent 10.16,-1.245 12.7,1.245
3D body "User Library-Header_Male_1Pin.STEP": height 8.54, standoff -3, extent 12.7,-1.245 15.24,1.245

## HDR_M_1X13 [mm] "Connector; Header; 13 Position"
pads (13):
  round 1.4 / inner round 1.4 / far side oval 1.4x2.2 hole 1 mask+0.1: 1(-15.24,0) 2(-12.7,0) 3(-10.16,0) 4(-7.62,0) 5(-5.08,0) 6(-2.54,0) 7(0,0) 8(2.54,0) 9(5.08,0) 10(7.62,0) 11(10.16,0) 12(12.7,0) 13(15.24,0)
TopOverlay:
  circle w0.2: c-16.6,-1.6 r0.2
  lines w0.2: -14,-1 -13.7,-1.3 -11.7,-1.3 -11.4,-1 ; -14,1 -13.7,1.3 -11.7,1.3 -11.4,1 ; -13.94,-1 -14.24,-1.3 -16.24,-1.3 -16.54,-1 -16.54,1 -16.24,1.3 -14.24,1.3 -13.94,1 ; -11.46,-1 -11.16,-1.3 -9.16,-1.3 -8.86,-1 ; -11.46,1 -11.16,1.3 -9.16,1.3 -8.86,1 ; -8.92,-1 -8.62,-1.3 -6.62,-1.3 -6.32,-1 ; -8.92,1 -8.62,1.3 -6.62,1.3 -6.32,1 ; -6.38,-1 -6.08,-1.3 -4.08,-1.3 -3.78,-1 ; -6.38,1 -6.08,1.3 -4.08,1.3 -3.78,1 ; -3.84,-1 -3.54,-1.3 -1.54,-1.3 -1.24,-1 ; -3.84,1 -3.54,1.3 -1.54,1.3 -1.24,1 ; -1.3,-1 -1,-1.3 1,-1.3 1.3,-1 ; -1.3,1 -1,1.3 1,1.3 1.3,1 ; 1.24,-1 1.54,-1.3 3.54,-1.3 3.84,-1 ; 1.24,1 1.54,1.3 3.54,1.3 3.84,1 ; 3.78,-1 4.08,-1.3 6.08,-1.3 6.38,-1 ; 3.78,1 4.08,1.3 6.08,1.3 6.38,1 ; 6.32,-1 6.62,-1.3 8.62,-1.3 8.92,-1 8.92,1 8.62,1.3 6.62,1.3 6.32,1 ; 8.86,-1 9.16,-1.3 11.16,-1.3 11.46,-1 ; 8.86,1 9.16,1.3 11.16,1.3 11.46,1 ; 11.4,-1 11.7,-1.3 13.7,-1.3 14,-1 ; 11.4,1 11.7,1.3 13.7,1.3 14,1 ; 13.94,-1 14.24,-1.3 16.24,-1.3 16.54,-1 16.54,1 16.24,1.3 14.24,1.3 13.94,1
3D body "User Library-Header_Male_1Pin.STEP": height 8.54, standoff -3, extent 13.97,-1.245 16.51,1.245
3D body "User Library-Header_Male_1Pin.STEP": height 8.54, standoff -3, extent 11.43,-1.245 13.97,1.245
3D body "User Library-Header_Male_1Pin.STEP": height 8.54, standoff -3, extent 8.89,-1.245 11.43,1.245
3D body "User Library-Header_Male_10Pin.STEP": height 8.54, standoff -3, extent -16.51,-1.3 8.89,1.19